# EAGLE library part RT9595 (library custom)
IC Flash Capacitor Charger 2.9-5.5V
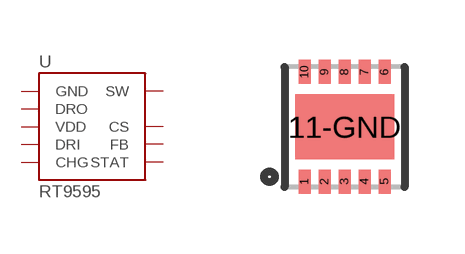
[diagram p65: symbol with the pads of WDFN-10L; footprint WDFN-10L]

Designator prefix U

## RT9595  [WDFN-10L]
1  GND
2  DRO
3  VDD
4  DRI
5  CHG
6  STAT
7  FB
8  CS
10  SW
11-GND  GND

## Footprint WDFN-10L (pad centres in mm)
smd 0.3 x 0.6: 1 -1,-1.37; 2 -0.5,-1.37; 3 0,-1.37; 4 0.5,-1.37; 5 1,-1.37; 6 1,1.37; 7 0.5,1.37; 8 0,1.37; 9 -0.5,1.37; 10 -1,1.37
smd 2.475 x 1.625: 11-GND 0,0